# EAGLE library part LTM8054IY#PBF (library SamacSys_Parts)
Non-Isolated PoL Module DC DC Converter 1 Output 1.2 ~ 36V 5.4A 5V - 36V Input Source: Datasheet <http://www.linear.com/docs/46982>
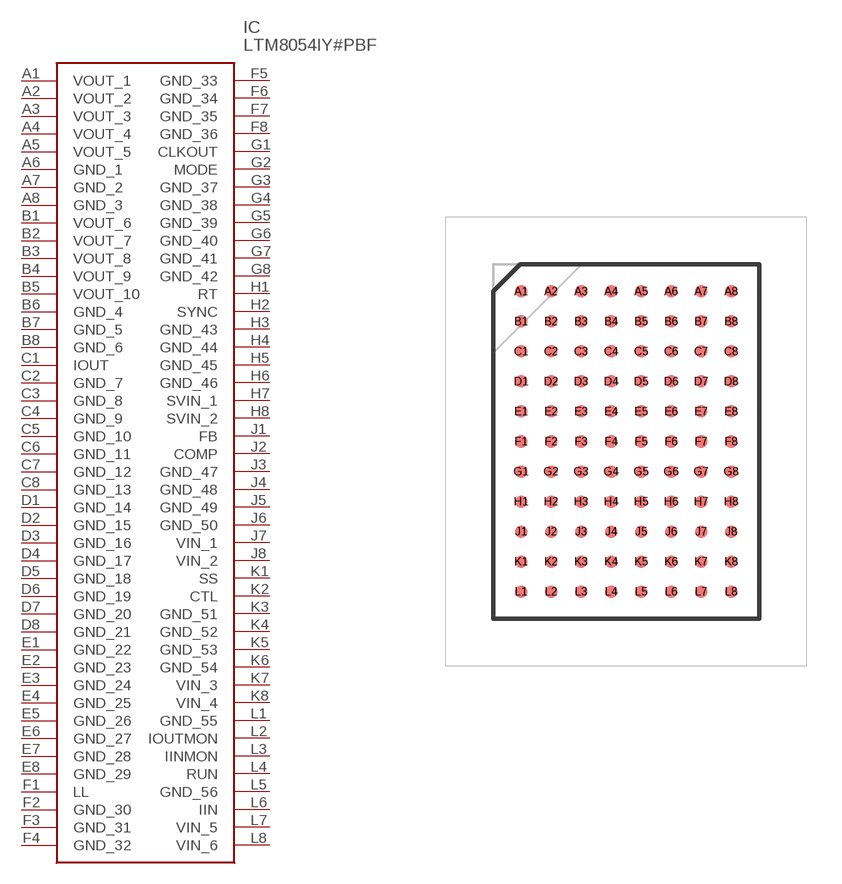
[diagram p1: symbol with the pads of BGA88C127P8X11_1125X1500X362; footprint BGA88C127P8X11_1125X1500X362]

Designator prefix IC

## LTM8054IY#PBF (DESCRIPTION: Non-Isolated PoL Module DC DC Converter 1 Output 1.2 ~ 36V 5.4A 5V - 36V Input; HEIGHT: 3.62mm; MANUFACTURER_NAME: Analog Devices; MANUFACTURER_PART_NUMBER: LTM8054IY#PBF; MOUSER_PART_NUMBER: 584-LTM8054IY#PBF; MOUSER_PRICE-STOCK: https://www.mouser.co.uk/ProductDetail/Analog-Devices/LTM8054IYPBF?qs=oahfZPh6IAJKrvsPWhXZVw%3D%3D)  [BGA88C127P8X11_1125X1500X362]
A1  VOUT_1
A2  VOUT_2
A3  VOUT_3
A4  VOUT_4
A5  VOUT_5
A6  GND_1
A7  GND_2
A8  GND_3
B1  VOUT_6
B2  VOUT_7
B3  VOUT_8
B4  VOUT_9
B5  VOUT_10
B6  GND_4
B7  GND_5
B8  GND_6
C1  IOUT
C2  GND_7
C3  GND_8
C4  GND_9
C5  GND_10
C6  GND_11
C7  GND_12
C8  GND_13
D1  GND_14
D2  GND_15
D3  GND_16
D4  GND_17
D5  GND_18
D6  GND_19
D7  GND_20
D8  GND_21
E1  GND_22
E2  GND_23
E3  GND_24
E4  GND_25
E5  GND_26
E6  GND_27
E7  GND_28
E8  GND_29
F1  LL
F2  GND_30
F3  GND_31
F4  GND_32
F5  GND_33
F6  GND_34
F7  GND_35
F8  GND_36
G1  CLKOUT
G2  MODE
G3  GND_37
G4  GND_38
G5  GND_39
G6  GND_40
G7  GND_41
G8  GND_42
H1  RT
H2  SYNC
H3  GND_43
H4  GND_44
H5  GND_45
H6  GND_46
H7  SVIN_1
H8  SVIN_2
J1  FB
J2  COMP
J3  GND_47
J4  GND_48
J5  GND_49
J6  GND_50
J7  VIN_1
J8  VIN_2
K1  SS
K2  CTL
K3  GND_51
K4  GND_52
K5  GND_53
K6  GND_54
K7  VIN_3
K8  VIN_4
L1  GND_55
L2  IOUTMON
L3  IINMON
L4  RUN
L5  GND_56
L6  IIN
L7  VIN_5
L8  VIN_6

## Footprint BGA88C127P8X11_1125X1500X362 (pad centres in mm)
BGA-88
smd 0.522 x 0.522: A1 -4.445,6.35; A2 -3.175,6.35; A3 -1.905,6.35; A4 -0.635,6.35; A5 0.635,6.35; A6 1.905,6.35; A7 3.175,6.35; A8 4.445,6.35; B1 -4.445,5.08; B2 -3.175,5.08; B3 -1.905,5.08; B4 -0.635,5.08; B5 0.635,5.08; B6 1.905,5.08; B7 3.175,5.08; B8 4.445,5.08; C1 -4.445,3.81; C2 -3.175,3.81; C3 -1.905,3.81; C4 -0.635,3.81; C5 0.635,3.81; C6 1.905,3.81; C7 3.175,3.81; C8 4.445,3.81; D1 -4.445,2.54; D2 -3.175,2.54; D3 -1.905,2.54; D4 -0.635,2.54; D5 0.635,2.54; D6 1.905,2.54; D7 3.175,2.54; D8 4.445,2.54; E1 -4.445,1.27; E2 -3.175,1.27; E3 -1.905,1.27; E4 -0.635,1.27; E5 0.635,1.27; E6 1.905,1.27; E7 3.175,1.27; E8 4.445,1.27; F1 -4.445,0; F2 -3.175,0; F3 -1.905,0; F4 -0.635,0; F5 0.635,0; F6 1.905,0; F7 3.175,0; F8 4.445,0; G1 -4.445,-1.27; G2 -3.175,-1.27; G3 -1.905,-1.27; G4 -0.635,-1.27; G5 0.635,-1.27; G6 1.905,-1.27; G7 3.175,-1.27; G8 4.445,-1.27; H1 -4.445,-2.54; H2 -3.175,-2.54; H3 -1.905,-2.54; H4 -0.635,-2.54; H5 0.635,-2.54; H6 1.905,-2.54; H7 3.175,-2.54; H8 4.445,-2.54; J1 -4.445,-3.81; J2 -3.175,-3.81; J3 -1.905,-3.81; J4 -0.635,-3.81; J5 0.635,-3.81; J6 1.905,-3.81; J7 3.175,-3.81; J8 4.445,-3.81; K1 -4.445,-5.08; K2 -3.175,-5.08; K3 -1.905,-5.08; K4 -0.635,-5.08; K5 0.635,-5.08; K6 1.905,-5.08; K7 3.175,-5.08; K8 4.445,-5.08; L1 -4.445,-6.35; L2 -3.175,-6.35; L3 -1.905,-6.35; L4 -0.635,-6.35; L5 0.635,-6.35; L6 1.905,-6.35; L7 3.175,-6.35; L8 4.445,-6.35